# Altium schematic symbol library launchpad.SCHLIB: 12 symbols
Pins are listed as number, name and electrical type; pins without a type are passive.

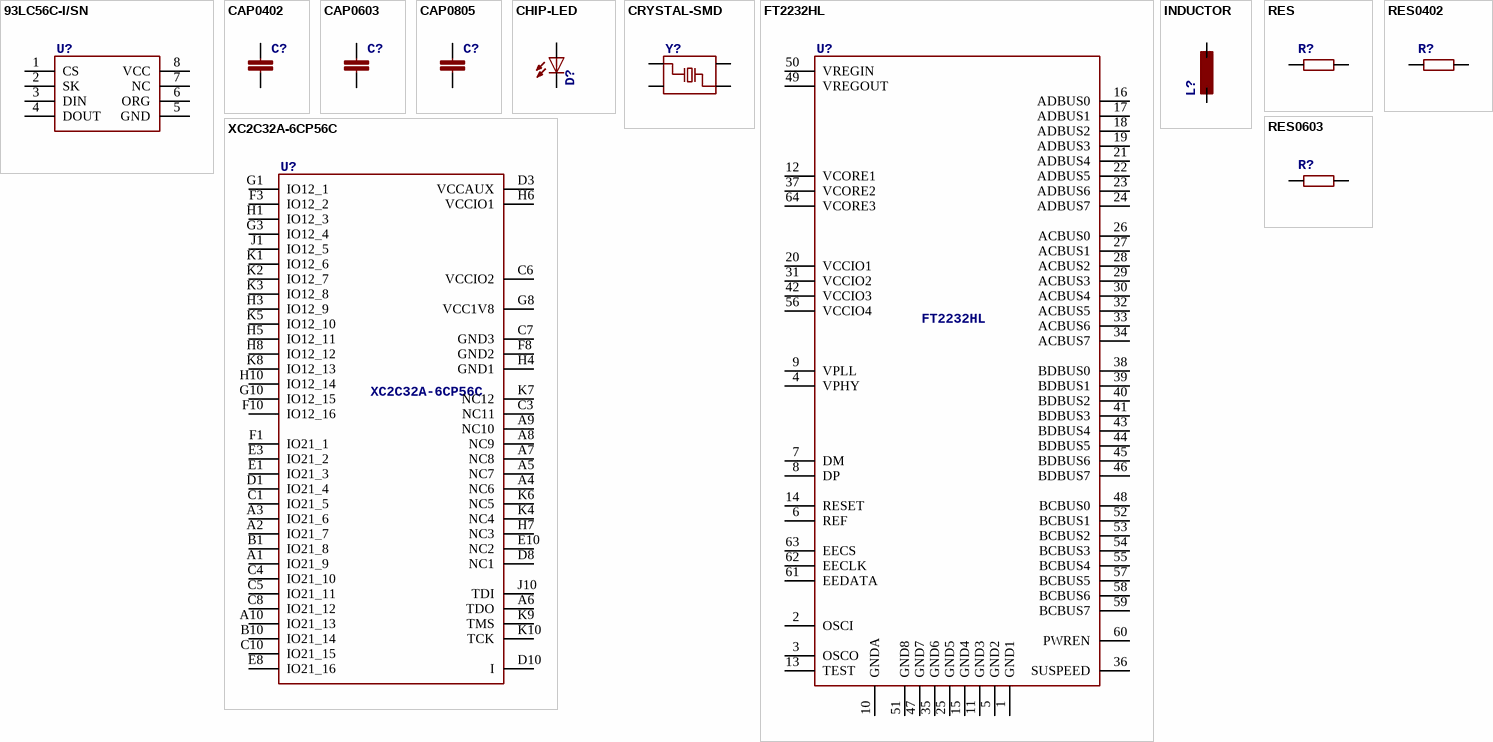
[diagram p0: symbols 93LC56C-I/SN to XC2C32A-6CP56C]

## 93LC56C-I/SN
designator U?
footprint SO8
pins: 1 CS, 2 SK, 3 DIN, 4 DOUT, 5 GND, 6 ORG, 7 NC, 8 VCC

## CAP0402
designator C?
footprint 0402
pins: 1, 2

## CAP0603
designator C?
footprint 0603
pins: 1, 2

## CAP0805
designator C?
footprint 0805
pins: 1, 2

## CHIP-LED
designator D?
footprint LED0805
pins: A, C

## CRYSTAL-SMD
designator Y?
footprint CRYSTAL_3225
pins: P$1, P$2, P$3, P$4

## FT2232HL
designator U?
footprint LQFP64
pins: 1 GND1, 2 OSCI, 3 OSCO, 4 VPHY, 5 GND2, 6 REF, 7 DM, 8 DP, 9 VPLL, 10 GNDA, 11 GND3, 12 VCORE1, 13 TEST, 14 RESET, 15 GND4, 16 ADBUS0, 17 ADBUS1, 18 ADBUS2, 19 ADBUS3, 20 VCCIO1, 21 ADBUS4, 22 ADBUS5, 23 ADBUS6, 24 ADBUS7, 25 GND5, 26 ACBUS0, 27 ACBUS1, 28 ACBUS2, 29 ACBUS3, 30 ACBUS4, 31 VCCIO2, 32 ACBUS5, 33 ACBUS6, 34 ACBUS7, 35 GND6, 36 SUSPEED, 37 VCORE2, 38 BDBUS0, 39 BDBUS1, 40 BDBUS2, 41 BDBUS3, 42 VCCIO3, 43 BDBUS4, 44 BDBUS5, 45 BDBUS6, 46 BDBUS7, 47 GND7, 48 BCBUS0, 49 VREGOUT, 50 VREGIN, 51 GND8, 52 BCBUS1, 53 BCBUS2, 54 BCBUS3, 55 BCBUS4, 56 VCCIO4, 57 BCBUS5, 58 BCBUS6, 59 BCBUS7, 60 PWREN, 61 EEDATA, 62 EECLK, 63 EECS, 64 VCORE3

## INDUCTOR
designator L?
footprint 0805
pins: 1, 2

## RES
designator R?
footprint 0805
pins: 1, 2

## RES0402
designator R?
footprint 0402
pins: 1, 2

## RES0603
designator R?
footprint 0603
pins: 1, 2

## XC2C32A-6CP56C
designator U?
footprint CP56
pins: A1 IO21_9, A2 IO21_7, A3 IO21_6, A4 NC6, A5 NC7, A6 TDO, A7 NC8, A8 NC9, A9 NC10, A10 IO21_13, B1 IO21_8, B10 IO21_14, C1 IO21_5, C3 NC11, C4 IO21_10, C5 IO21_11, C6 VCCIO2, C7 GND3, C8 IO21_12, C10 IO21_15, D1 IO21_4, D3 VCCAUX, D8 NC1, D10 I, E1 IO21_3, E3 IO21_2, E8 IO21_16, E10 NC2, F1 IO21_1, F3 IO12_2, F8 GND2, F10 IO12_16, G1 IO12_1, G3 IO12_4, G8 VCC1V8, G10 IO12_15, H1 IO12_3, H3 IO12_9, H4 GND1, H5 IO12_11, H6 VCCIO1, H7 NC3, H8 IO12_12, H10 IO12_14, J1 IO12_5, J10 TDI, K1 IO12_6, K2 IO12_7, K3 IO12_8, K4 NC4, K5 IO12_10, K6 NC5, K7 NC12, K8 IO12_13, K9 TMS, K10 TCK